# Altium footprint library hirose-df9.PcbLib: 1 footprints
Each footprint in its own frame and in the unit in brackets; x right, y up, seen from the top. Pads: shape width x height; smd on the part's side, far side on the other; paste and mask are expansions set on the pad; w line width, h text height; cw(c..) or ccw(c..) is an arc to the next point about the centre after c.
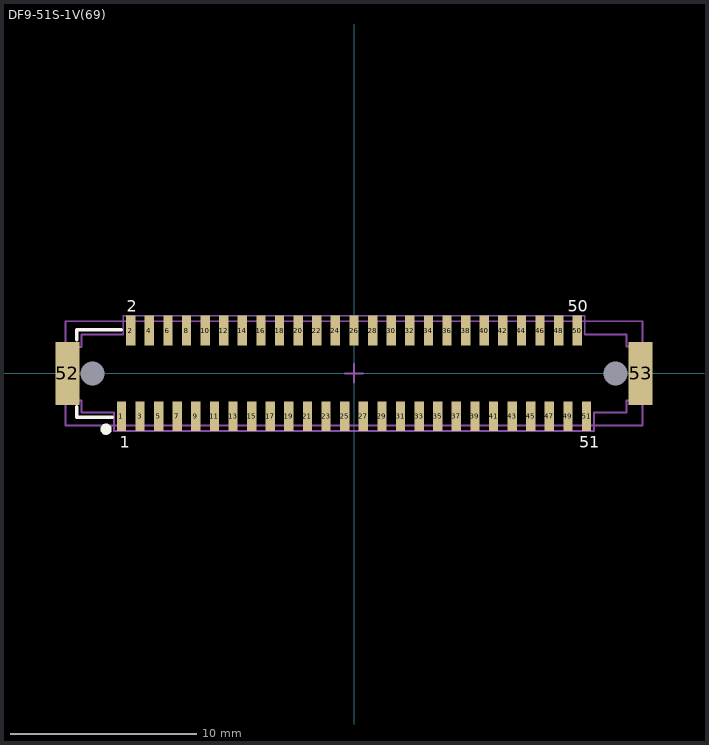
[diagram p0: the footprint, top view; thin cyan lines are the x and y axes]

## DF9-51S-1V(69) [mm] "1.0mm Pitch SMT Board to Board Connector, 51 Positions, Metal Fitting"
height 3.3
pads (55):
  round 0 hole 1.3 unplated: 0(-14.05,0) 0(14.05,0)
  rect 0.5x1.6 smd paste-0.025: 1(-12.5,-2.3) 2(-12,2.3) 3(-11.5,-2.3) 4(-11,2.3) 5(-10.5,-2.3) 6(-10,2.3) 7(-9.5,-2.3) 8(-9,2.3) 9(-8.5,-2.3) 10(-8,2.3) 11(-7.5,-2.3) 12(-7,2.3) 13(-6.5,-2.3) 14(-6,2.3) 15(-5.5,-2.3) 16(-5,2.3) 17(-4.5,-2.3) 18(-4,2.3) 19(-3.5,-2.3) 20(-3,2.3) 21(-2.5,-2.3) 22(-2,2.3) 23(-1.5,-2.3) 24(-1,2.3) 25(-0.5,-2.3) 26(0,2.3) 27(0.5,-2.3) 28(1,2.3) 29(1.5,-2.3) 30(2,2.3) 31(2.5,-2.3) 32(3,2.3) 33(3.5,-2.3) 34(4,2.3) 35(4.5,-2.3) 36(5,2.3) 37(5.5,-2.3) 38(6,2.3) 39(6.5,-2.3) 40(7,2.3) 41(7.5,-2.3) 42(8,2.3) 43(8.5,-2.3) 44(9,2.3) 45(9.5,-2.3) 46(10,2.3) 47(10.5,-2.3) 48(11,2.3) 49(11.5,-2.3) 50(12,2.3) 51(12.5,-2.3)
  rect 1.3x3.4 smd: 52(-15.4,0) 53(15.4,0)
Top Overlay:
  circle w0.3: c-13.325,-3 r0.15
  lines w0.18: -14.9,-1.8 -14.9,-2.35 -13,-2.35 ; -14.9,1.8 -14.9,2.35 -12.5,2.35
  text "1" at -12.6,-4 h0.64
  text "2" at -12.2,3.3 h0.64
  text "50" at 11.5,3.3 h0.64
  text "51" at 12.1,-4 h0.64
Mechanical 13:
  lines w0.1: -0.5,0 0.5,0 ; 0,-0.5 0,0.5 ; -15.55,-1.45 -14.65,-1.45 -14.65,-2.1 -12.9,-2.1 -12.9,-3.1 12.9,-3.1 12.9,-2.1 14.65,-2.1 14.65,-1.45 15.55,-1.45 15.55,1.45 14.65,1.45 14.65,2.1 12.4,2.1 12.4,3.1 -12.4,3.1 -12.4,2.1 -14.65,2.1 -14.65,1.425 -15.55,1.425 -15.55,-1.45
Mechanical 15:
  lines w0.1: -15.5,-2.8 -15.5,2.8 15.5,2.8 15.5,-2.8 -15.5,-2.8
  text ".Designator" at -2.5,-0.5 h0.8
3D body: height 3.32, standoff -0.78, extent -15.55,-2.8 15.55,2.8